# Altium schematic symbol library RcTransmitterSchlib1.SchLib: 17 symbols
Pins are listed as number, name and electrical type; pins without a type are passive.

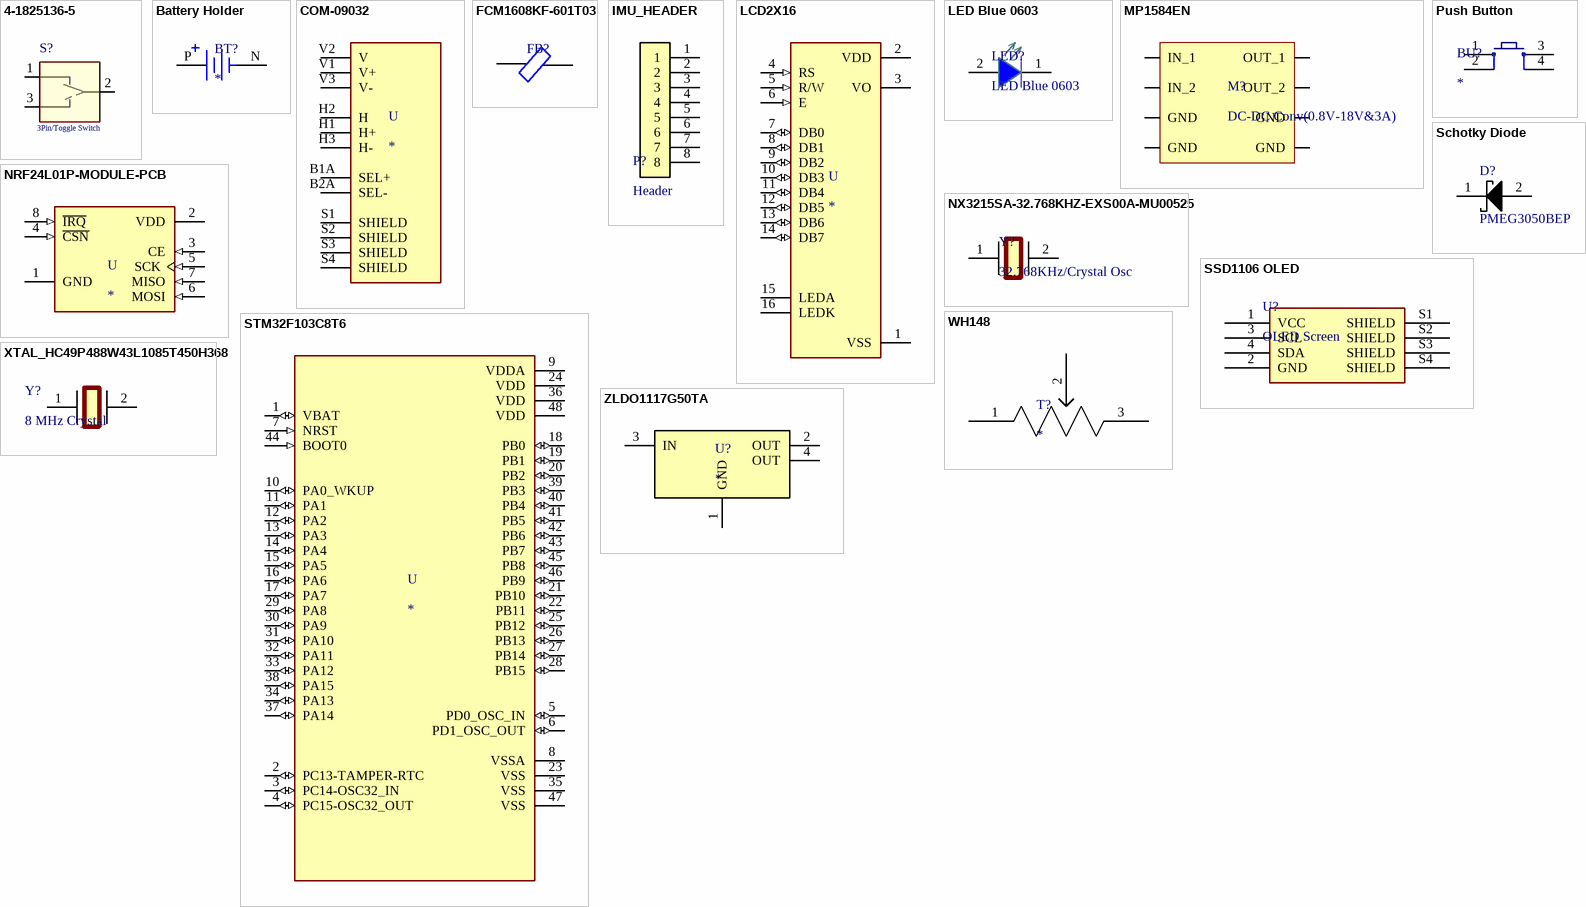
[diagram p0: symbols 4-1825136-5 to ZLDO1117G50TA]

## 4-1825136-5
designator S?, comment 3Pin/Toggle Switch
Switch Toggle ON None ON SPDT Long Baton Lever PC Pins 5A 250VAC 28VDC PC Mount with Threads Bulk; MF: TE Connectivity; MP: 4-1825136-5; SnapEDA_Link: https://www.snapeda.com/parts/4-1825136-5/TE%20Connectivity%20ALCOSWITCH%20Switches/view-part/?ref=snap; Price: None; TE_purchase_URL: https://www.te.com/usa-en/product-4-1825136-5.html?te_bu=Cor&te_type=disp&te_campaign=seda_glo_cor-seda-global-disp-prtnr-fy19-seda-model-bom-cta_sma-317_1&elqCampaignId=32493; EU_RoHS_Compliance: Compliant with Exemptions; Package: SOIC-8 TE Connectivity; Availability: Unavailable; Value: *; Supplier 1: Digi-Key; Supplier Part Number 1: 450-1784-ND; Name: 3Pin/Toggle Switch
footprint 3Pin/Toggle Switch (4-1825136-5)
pins: 1, 2, 3

## Battery Holder
designator BT?
BATTERY HOLDER 9V PC PIN; MF: MPD; MP: BC9VPC; Check_prices: https://www.snapeda.com/parts/BC9VPC/MPD/view-part/4389071/?ref=eda; Package: None; Value: *; Price: None; Availability: Warning; SnapEDA_Link: https://www.snapeda.com/parts/BC9VPC/MPD/view-part/4389071/?ref=snap; Purchase-URL: https://pricing.snapeda.com/search/part/BC9VPC/?ref=eda
footprint BAT_BC9VPC
pins: N NEG, P POS

## COM-09032
designator U
Joystick, 2 - Axis Analog _Resistive_ Output; MF: SparkFun Electronics; MP: COM-09032; SnapEDA_Link: https://www.snapeda.com/parts/COM-09032/SparkFun%20Electronics/view-part/888157/?ref=snap; Availability: Unavailable; Value: *; Price: None; Package: SparkFun Electronics
footprint XDCR_COM-09032
pins: B1A SEL+, B2A SEL-, H1 H+, H2 H, H3 H-, S1 SHIELD, S2 SHIELD, S3 SHIELD, S4 SHIELD, V1 V+, V2 V, V3 V-

## FCM1608KF-601T03
designator FB?, comment Ferrite Bead  (value not drawn)
footprint FCM1608KF-601T03
pins: 1, 2

## IMU_HEADER
designator P?, comment Header
1x8
footprint IMU_HEADER
pins: 1, 2, 3, 4, 5, 6, 7, 8

## LCD2X16
designator U
Display; Display: LCD 2x16 characters (blue backlight); MF: mikroElektronika; SnapEDA_Link: https://www.snapeda.com/parts/LCD2X16/mikroElektronika/view-part/2472530/?ref=snap; Price: None; Package: None; Availability: Unavailable; Value: *; MP: LCD2X16
footprint LCD_LCD2X16
pins: 1 VSS (power), 2 VDD (power), 3 VO, 4 RS (in), 5 R/W (in), 6 E (in), 7 DB0 (io), 8 DB1 (io), 9 DB2 (io), 10 DB3 (io), 11 DB4 (io), 12 DB5 (io), 13 DB6 (io), 14 DB7 (io), 15 LEDA, 16 LEDK

## LED Blue 0603
designator LED?
footprint LED BLUE 0603
pins: 1, 2

## MP1584EN
designator M?, comment DC-DC Conv(0.8V-18V&3A)
footprint mp
pins: 1 IN_1, 2 IN_2, 3 OUT_1, 4 OUT_2, 5 GND, 6 GND, 7 GND, 8 GND

## NRF24L01P-MODULE-PCB
designator U
- Transceiver For Use With nRF24L01+; MP: NRF24L01P-MODULE-PCB; MF: Nordic Semiconductor; Package: None; Value: *; Availability: Bad; Price: None; SnapEDA_Link: https://www.snapeda.com/parts/NRF24L01P-MODULE-PCB/Nordic%20Semiconductor%20ASA/view-part/230534/?ref=snap; Mouser-Purchase-URL: https://snapeda.com/shop?store=Mouser&id=230534
footprint nrf
pins: 1 GND (power), 2 VDD (power), 3 CE (in), 4 ~{CSN} (in), 5 SCK (in), 6 MOSI (in), 7 MISO (in), 8 ~{IRQ} (in)

## NX3215SA-32.768KHZ-EXS00A-MU00525
designator Y?, comment 32.768KHz/Crystal Osc
Crystal or Oscillator; ComponentLink1Description: New link; ComponentLink1URL: *
footprint 32KhZ crystal oscillator
pins: 1, 2

## Push Button
designator BU?
Smd Push Button; Satın Alma Linki: https://urun.n11.com/diger/mini-pushbutton-switch-smd-P227461537?gclid=Cj0KCQjwkoDmBRCcARIsAG3xzl8Y_-jeD7HocNM6lvuZ_rVp83568XPGtNzlPwXWLph8oCRqo0yh87UaApZYEALw_wcB&gclsrc=aw.ds
footprint button son
pins: 1, 2, 3, 4

## Schotky Diode
designator D?, comment PMEG3050BEP
Schotky Diode; Manufacturer: Nexperia USA; Manufacturer Part Number: PMEG3050BEP,115; Supplier 1: Digi-Key; Supplier Part Number 1: 1727-5207-1-ND; Stock 1: 62590; Pricing 1: 1=0.44, 10=0.373, 100=0.2786, 500=0.2189, 1000=0.1692 (USD)
footprint SOD470X100-2N
pins: 1 K, 2 A

## SSD1106 OLED
designator U?, comment OLED Screen
footprint SSD1106 OLED
pins: 1 VCC, 2 GND, 3 SCL, 4 SDA, S1 SHIELD, S2 SHIELD, S3 SHIELD, S4 SHIELD

## STM32F103C8T6
designator U
ARMÂ® CortexÂ®-M3 STM32F1 Microcontroller IC 32-Bit 72MHz 64KB _64K x 8_ FLASH; MP: STM32F103C8T6; MF: STMicroelectronics; Price: None; Package: LQFP-48 STMicroelectronics; Value: *; Availability: Unavailable; SnapEDA_Link: https://www.snapeda.com/parts/STM32F103C8T6/STMicroelectronics/view-part/52195/?ref=snap
footprint QFP50P900X900X160-48N
pins: 1 VBAT (io), 2 PC13-TAMPER-RTC (io), 3 PC14-OSC32_IN (io), 4 PC15-OSC32_OUT (io), 5 PD0_OSC_IN (io), 6 PD1_OSC_OUT (io), 7 NRST (in), 8 VSSA (power), 9 VDDA (power), 10 PA0_WKUP (io), 11 PA1 (io), 12 PA2 (io), 13 PA3 (io), 14 PA4 (io), 15 PA5 (io), 16 PA6 (io), 17 PA7 (io), 18 PB0 (io), 19 PB1 (io), 20 PB2 (io), 21 PB10 (io), 22 PB11 (io), 23 VSS (power), 24 VDD (power), 25 PB12 (io), 26 PB13 (io), 27 PB14 (io), 28 PB15 (io), 29 PA8 (io), 30 PA9 (io), 31 PA10 (io), 32 PA11 (io), 33 PA12 (io), 34 PA13 (io), 35 VSS (power), 36 VDD (power), 37 PA14 (io), 38 PA15 (io), 39 PB3 (io), 40 PB4 (io), 41 PB5 (io), 42 PB6 (io), 43 PB7 (io), 44 BOOT0 (in), 45 PB8 (io), 46 PB9 (io), 47 VSS (power), 48 VDD (power)

## WH148
designator T?
footprint WH148
pins: 1, 2, 3

## XTAL_HC49P488W43L1085T450H368
designator Y?, comment 8 MHz Crystal
footprint XTAL_HC49P488W43L1085T450H368
pins: 1, 2

## ZLDO1117G50TA
designator U?
IC REG LDO 5V 1A SOT223
footprint 1117
pins: 1 GND (power), 2 OUT (power), 3 IN (power), 4 OUT (power)